# Altium schematic symbol library transistores.SchLib: 1 symbol
Pins are listed as number, name and electrical type; pins without a type are passive.

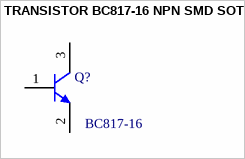
[diagram p0: symbol TRANSISTOR BC817-16 NPN SMD SOT23]

## TRANSISTOR BC817-16 NPN SMD SOT23
designator Q?  PN: BC817-16  (hidden comment: TRANSISTOR BC817-16 NPN SMD SOT23)
45V NPN SMALL SIGNAL TRANSISTOR IN SOT23
footprint SOT23-3N (SOT23, 3-Leads, Body 2.9x1.3mm, Pitch 0.95mm, Lead Span 2.5mm, IPC Medium Density)
pins: 1 B, 2 E, 3 C